# Altium footprint library Resistors$.PcbLib: 35 footprints (part 1 of 3)
Each footprint in its own frame and in the unit in brackets; x right, y up, seen from the top. Pads: shape width x height; smd on the part's side, far side on the other; paste and mask are expansions set on the pad; w line width, h text height; cw(c..) or ccw(c..) is an arc to the next point about the centre after c.
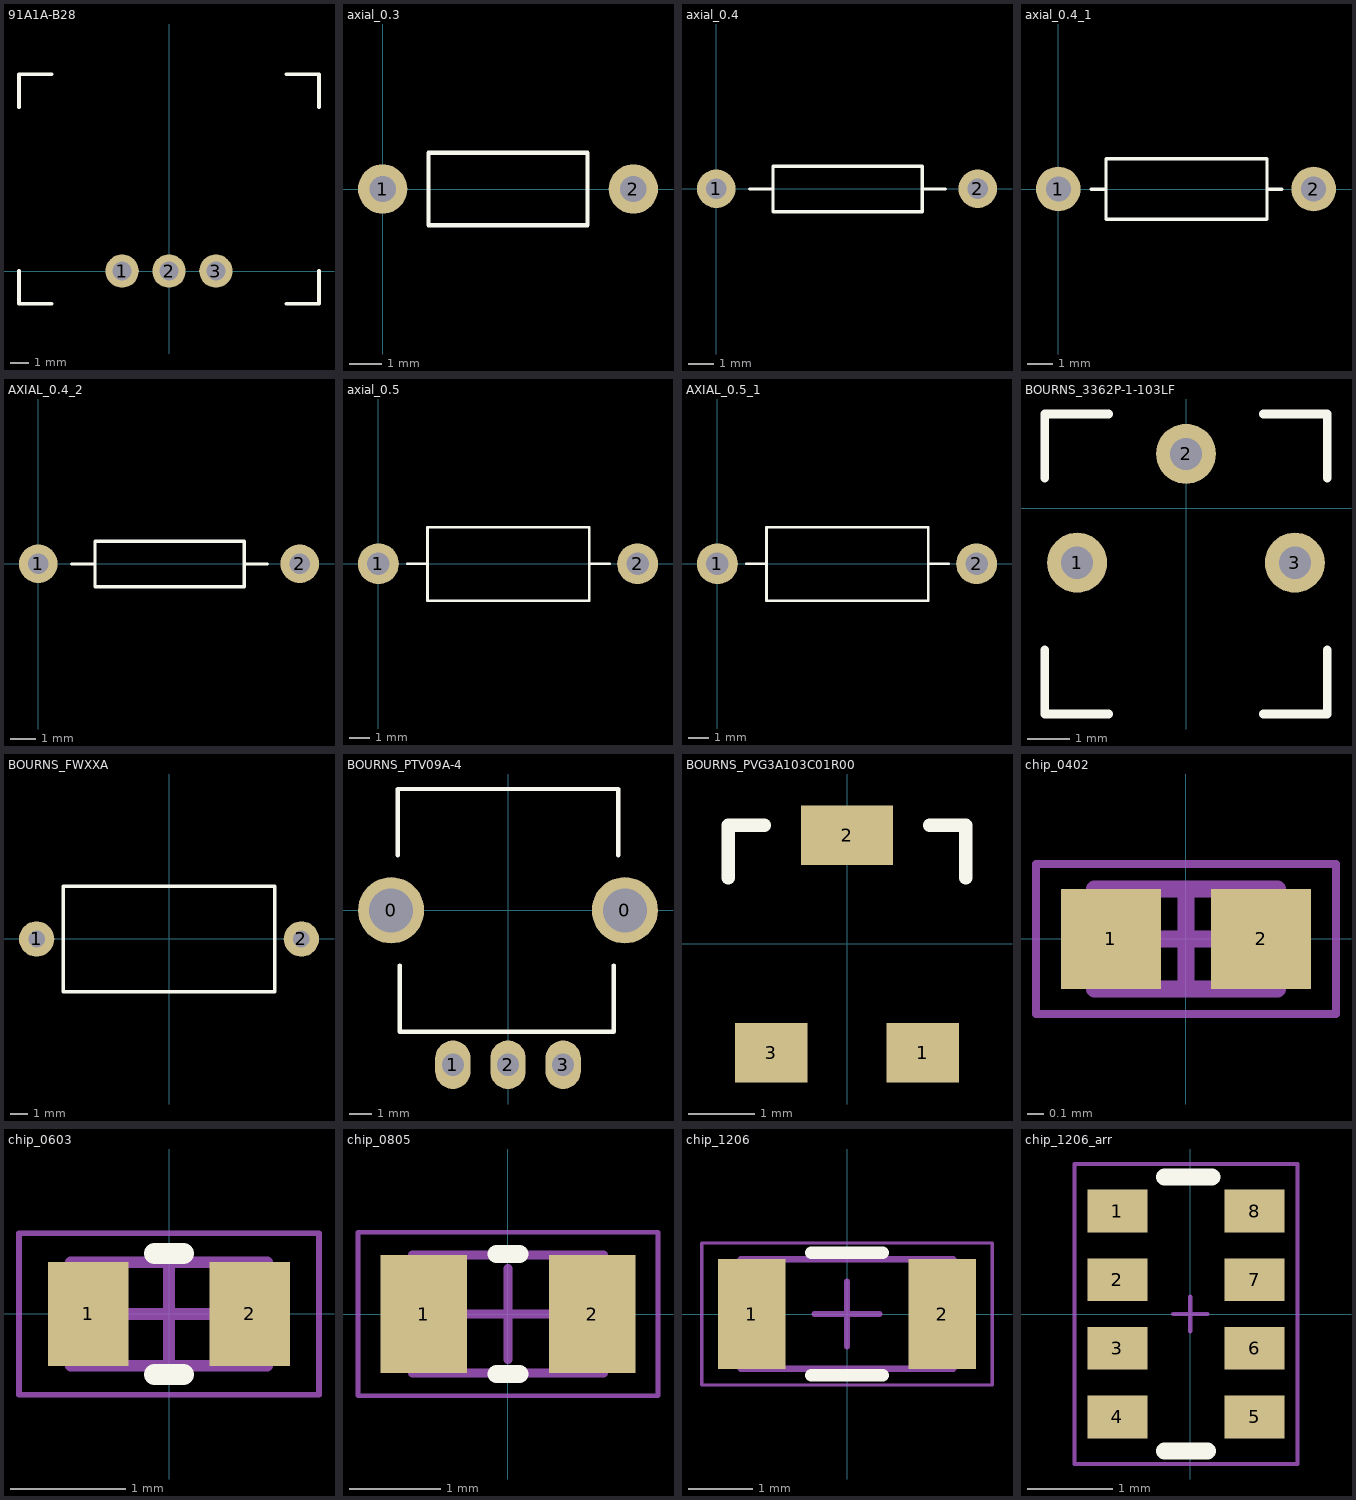
[diagram p0: the footprints below, top view; thin cyan lines are the x and y axes]

## 91A1A-B28 [mil] "Bourns Potentiometer"
pads (3):
  round 70 hole 40: 1(-98.43,0) 2(0,0) 3(98.43,0)
Top Overlay:
  lines w7.87: -314.96,0 -314.96,-68.9 -246.06,-68.9 ; -314.96,344.49 -314.96,413.39 -246.06,413.39 ; 246.06,-68.9 314.96,-68.9 314.96,0 ; 246.06,413.39 314.96,413.39 314.96,344.49
3D body "91A1A-B28.stp": height 687, standoff -600, extent -312.5,-65 312.5,1310

## axial_0.3 [mm] "Axial leaded component, 0.3\" spacing"
pads (2):
  round 1.5 hole 0.8: 1(0,0) 2(7.62,0)
Top Overlay:
  lines w0.127: 1.397,-1.1 6.223,-1.1 6.223,1.1 1.397,1.1 1.397,-1.1
3D body "Resistor_0.3in.SLDPRT": height 2.4, standoff -1.75, extent -0.274,-1.15 7.875,1.143

## axial_0.4 [mm] "Axial device, 0.4\" spacing"
pads (2):
  round 1.5 hole 0.8: 1(0,0) 2(10.16,0)
Top Overlay:
  lines w0.127: 1.3,-0.011 2.2,-0.011 ; 8,-0.011 8.9,-0.011 ; 2.2,-0.9 8,-0.9 8,0.878 2.2,0.878 2.2,-0.9
3D body "Resistor.SLDPRT": height 2.4, standoff -1.75, extent -0.254,-1.15 10.455,1.144

## axial_0.4_1 [mil] "Axial device, 0.4\" spacing, 0.6W"
pads (2):
  round 70 hole 39.37: 1(0,0) 2(400,0)
Top Overlay:
  lines w5: 51.18,-0.43 74.8,-0.43 ; 326.77,-0.43 350.39,-0.43 ; 74.8,-47.24 326.77,-47.24 326.77,47.24 74.8,47.24 74.8,-47.24
3D body "Resistor_0.4_0.6W.SLDPRT": height 102.27, standoff -64.96, extent -10.99,-49.21 412.58,48.96

## AXIAL_0.4_2 [mm] "Axial device, 0.4\" spacing"
pads (2):
  round 1.5 hole 0.8: 1(0,0) 2(10.16,0)
Top Overlay:
  lines w0.127: 1.3,-0.011 2.2,-0.011 ; 8,-0.011 8.9,-0.011 ; 2.2,-0.9 8,-0.9 8,0.878 2.2,0.878 2.2,-0.9
3D body "Resistor.SLDPRT": height 2.4, standoff -1.75, extent -0.254,-1.15 10.455,1.144

## axial_0.5 [mm]
pads (2):
  round 2 hole 1.1: 1(0,0.011) 2(12.67,0.011)
Top Overlay:
  lines w0.127: 1.4,0.011 2.4,0.011 ; 10.3,0.011 11.3,0.011 ; 2.4,-1.8 2.4,1.8 10.3,1.8 10.3,-1.8 2.4,-1.8
3D body "Resistor_0.5.SLDPRT": height 3.7, standoff -2.1, extent -0.334,-1.8 12.935,1.8

## AXIAL_0.5_1 [mm]
pads (2):
  round 2 hole 1.1: 1(0,0.011) 2(12.67,0.011)
Top Overlay:
  lines w0.127: 1.4,0.011 2.4,0.011 ; 10.3,0.011 11.3,0.011 ; 2.4,-1.8 2.4,1.8 10.3,1.8 10.3,-1.8 2.4,-1.8
3D body "Resistor_0.5.SLDPRT": height 3.7, standoff -2.1, extent -0.334,-1.8 12.935,1.8

## BOURNS_3362P-1-103LF [mm] "Bourns Potentiometer"
pads (3):
  round 1.4 hole 0.75 unplated: 1(-2.54,-1.27) 2(0,1.27) 3(2.54,-1.27)
Top Overlay:
  lines w0.2: -3.3,-3.3 -3.3,-4.8 -1.8,-4.8 ; -3.3,0.7 -3.3,2.2 -1.8,2.2 ; 1.8,-4.8 3.3,-4.8 3.3,-3.3 ; 1.8,2.2 3.3,2.2 3.3,0.7
3D body "BOURNS_3362P001XXX0A.stp": height 4.7, standoff -5.46, extent -3.302,-4.81 3.302,2.175

## BOURNS_FWXXA [mm]
pads (2):
  round 2 hole 0.95: 1(-7.5,0) 2(7.5,0)
Top Overlay:
  lines w0.2: -6,-3 -6,3 6,3 6,-3 -6,-3
3D body "BOURNS_FWxxA.SLDPRT": height 6.05, standoff -1.95, extent -7.824,-3 7.825,3

## BOURNS_PTV09A-4 [mm]
pads (5):
  round 3 hole 2: 0(-5.3,0) 0(5.3,0)
  oval 1.6x2.2 hole 1: 1(-2.5,-7) 2(0,-7) 3(2.5,-7)
Top Overlay:
  lines w0.2: -5,2.5 -5,5.5 5,5.5 5,2.5 ; -4.9,-2.5 -4.9,-5.5 4.8,-5.5 4.8,-2.5
3D body: height 6.8, standoff 0, extent -5,-5.4 5,5.4
3D body: height 20, standoff 0, extent -3,-3 3,3

## BOURNS_PVG3A103C01R00 [mm] "Potenetiometer, Bourns PBG3A series"
pads (3):
  rect 1.1x0.9 smd: 1(1.15,-1.65) 3(-1.15,-1.65)
  rect 1.4x0.9 smd: 2(0,1.65)
Top Overlay:
  lines w0.2: -1.8,1 -1.8,1.8 -1.25,1.8 ; 1.25,1.8 1.8,1.8 1.8,1
3D body "BOURNS_PVG3A103C01R00.step": height 2.06, standoff 0, extent -1.803,-1.803 1.803,1.803

## chip_0402 [mm]
height 0.6
pads (2):
  rect 0.6x0.6 smd: 1(-0.45,0) 2(0.45,0)
Mechanical 13:
  lines w0.1: -0.55,-0.3 0.55,-0.3 0.55,0.3 -0.55,0.3 -0.55,-0.3
Mechanical 15:
  lines w0.05: -0.9,-0.45 0.9,-0.45 0.9,0.45 -0.9,0.45 -0.9,-0.45
  lines w0.1: -0.3,0 0.3,0 ; 0,-0.3 0,0.3
3D body: height 0.6, standoff 0, extent 0.3,-0.3 0.55,0.3
3D body: height 0.6, standoff 0, extent -0.55,-0.3 -0.3,0.3
3D body: height 0.6, standoff 0, extent -0.3,-0.3 0.3,0.3

## chip_0603 [mm]
height 0.6
pads (2):
  rect 0.7x0.9 smd: 1(-0.7,0) 2(0.7,0)
Top Overlay:
  lines w0.18: -0.125,-0.525 0.125,-0.525 ; -0.125,0.525 0.125,0.525
Mechanical 13:
  lines w0.1: -0.85,-0.45 -0.85,0.45 0.85,0.45 0.85,-0.45 -0.85,-0.45
Mechanical 15:
  lines w0.05: -1.3,-0.7 -1.3,0.7 1.3,0.7 1.3,-0.7 -1.3,-0.7
  lines w0.1: -0.45,0 0.45,0 ; 0,-0.45 0,0.45
3D body: height 0.6, standoff 0, extent -0.55,-0.45 0.55,0.45
3D body: height 0.6, standoff 0, extent -0.85,-0.45 -0.55,0.45
3D body: height 0.6, standoff 0, extent 0.55,-0.45 0.85,0.45

## chip_0805 [mm]
height 0.6
pads (2):
  rect 0.95x1.3 smd: 1(-0.925,0) 2(0.925,0)
Top Overlay:
  lines w0.2: -0.127,-0.66 0.127,-0.66 ; -0.127,0.66 0.127,0.66
Mechanical 13:
  lines w0.1: -1.05,-0.65 1.05,-0.65 1.05,0.65 -1.05,0.65 -1.05,-0.65
Mechanical 15:
  lines w0.05: -1.65,-0.9 1.65,-0.9 1.65,0.9 -1.65,0.9 -1.65,-0.9
  lines w0.1: -0.5,0 0.5,0 ; 0,-0.5 0,0.5
3D body: height 0.6, standoff 0, extent 0.6,-0.65 1.05,0.65
3D body: height 0.6, standoff 0, extent -1.05,-0.65 -0.6,0.65
3D body: height 0.6, standoff 0, extent -0.6,-0.65 0.6,0.65

## chip_1206 [mm]
height 0.6
pads (2):
  rect 1.05x1.7 smd: 1(-1.475,0) 2(1.475,0)
Top Overlay:
  lines w0.2: -0.55,-0.95 0.55,-0.95 ; -0.55,0.95 0.55,0.95
Mechanical 13:
  lines w0.1: -1.65,-0.85 1.65,-0.85 1.65,0.85 -1.65,0.85 -1.65,-0.85
Mechanical 15:
  lines w0.05: -2.25,-1.1 2.25,-1.1 2.25,1.1 -2.25,1.1 -2.25,-1.1
  lines w0.1: -0.5,0 0.5,0 ; 0,-0.5 0,0.5
3D body: height 0.6, standoff 0, extent 1.15,-0.85 1.65,0.85
3D body: height 0.6, standoff 0, extent -1.65,-0.85 -1.15,0.85
3D body: height 0.6, standoff 0, extent -1.15,-0.85 1.15,0.85

## chip_1206_arr [mm] "4 element array"
pads (8):
  rect 0.7x0.5 smd mask+0.062: 1(-0.85,1.2) 2(-0.85,0.4) 3(-0.85,-0.4) 4(-0.85,-1.2) 5(0.75,-1.2) 6(0.75,-0.4) 7(0.75,0.4) 8(0.75,1.2)
Top Overlay:
  lines w0.2: -0.3,-1.6 0.2,-1.6 ; -0.3,1.6 0.25,1.6
Mechanical 15:
  lines w0.05: -0.2,0 0.2,0 ; 0,-0.2 0,0.2 ; -1.35,-1.75 1.25,-1.75 1.25,1.75 -1.35,1.75 -1.35,-1.75
3D body: height 0.53, standoff 0, extent -0.85,-1.6 0.75,1.6